# Altium footprint library pickit4-connection.PcbLib: 1 footprints
Each footprint in its own frame and in the unit in brackets; x right, y up, seen from the top. Pads: shape width x height; smd on the part's side, far side on the other; paste and mask are expansions set on the pad; w line width, h text height; cw(c..) or ccw(c..) is an arc to the next point about the centre after c.
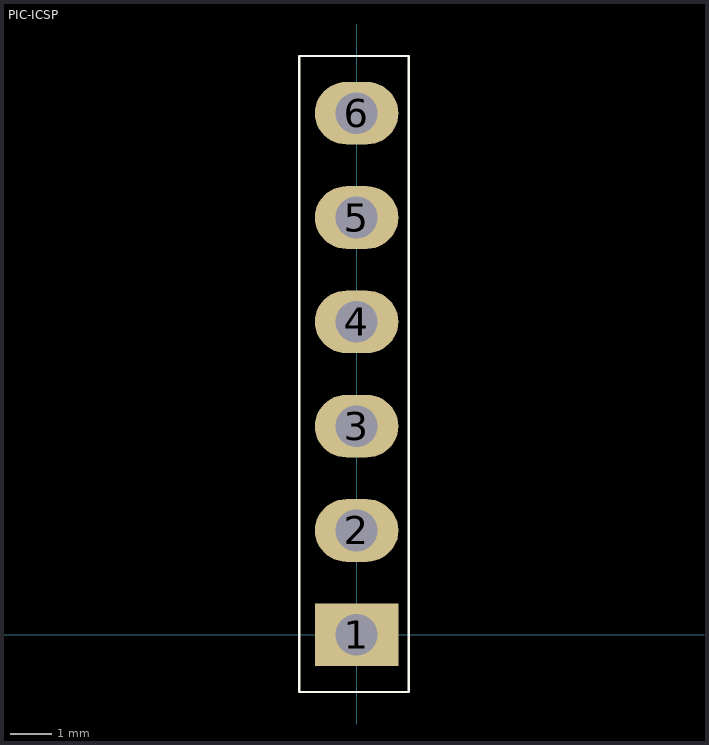
[diagram p0: the footprint, top view; thin cyan lines are the x and y axes]

## PIC-ICSP [mil]
pads (6):
  rect 80x60 hole 40: 1(0,0)
  oval 80x60 hole 40: 2(0,100) 3(0,200) 4(0,300) 5(0,400) 6(0,500)
Top Overlay:
  lines w1.97: -1.89,111.97 -1.89,91.97 38.11,91.97 ; -1.89,191.97 -1.89,211.97 ; -1.89,291.97 -1.89,311.97 ; -1.89,391.97 -1.89,411.97 ; -1.89,491.97 -1.89,511.97 ; -55,-55 50,-55 50,555 -55,555 -55,-55
3D body "pickit4-connection.step": height 338.58, standoff -118.11, extent -50,-50 48.43,550